# Altium integrated library Analog Devices Data Converters Analog-to-Digital Converters.IntLib: 2400 symbols (part 308 of 338)
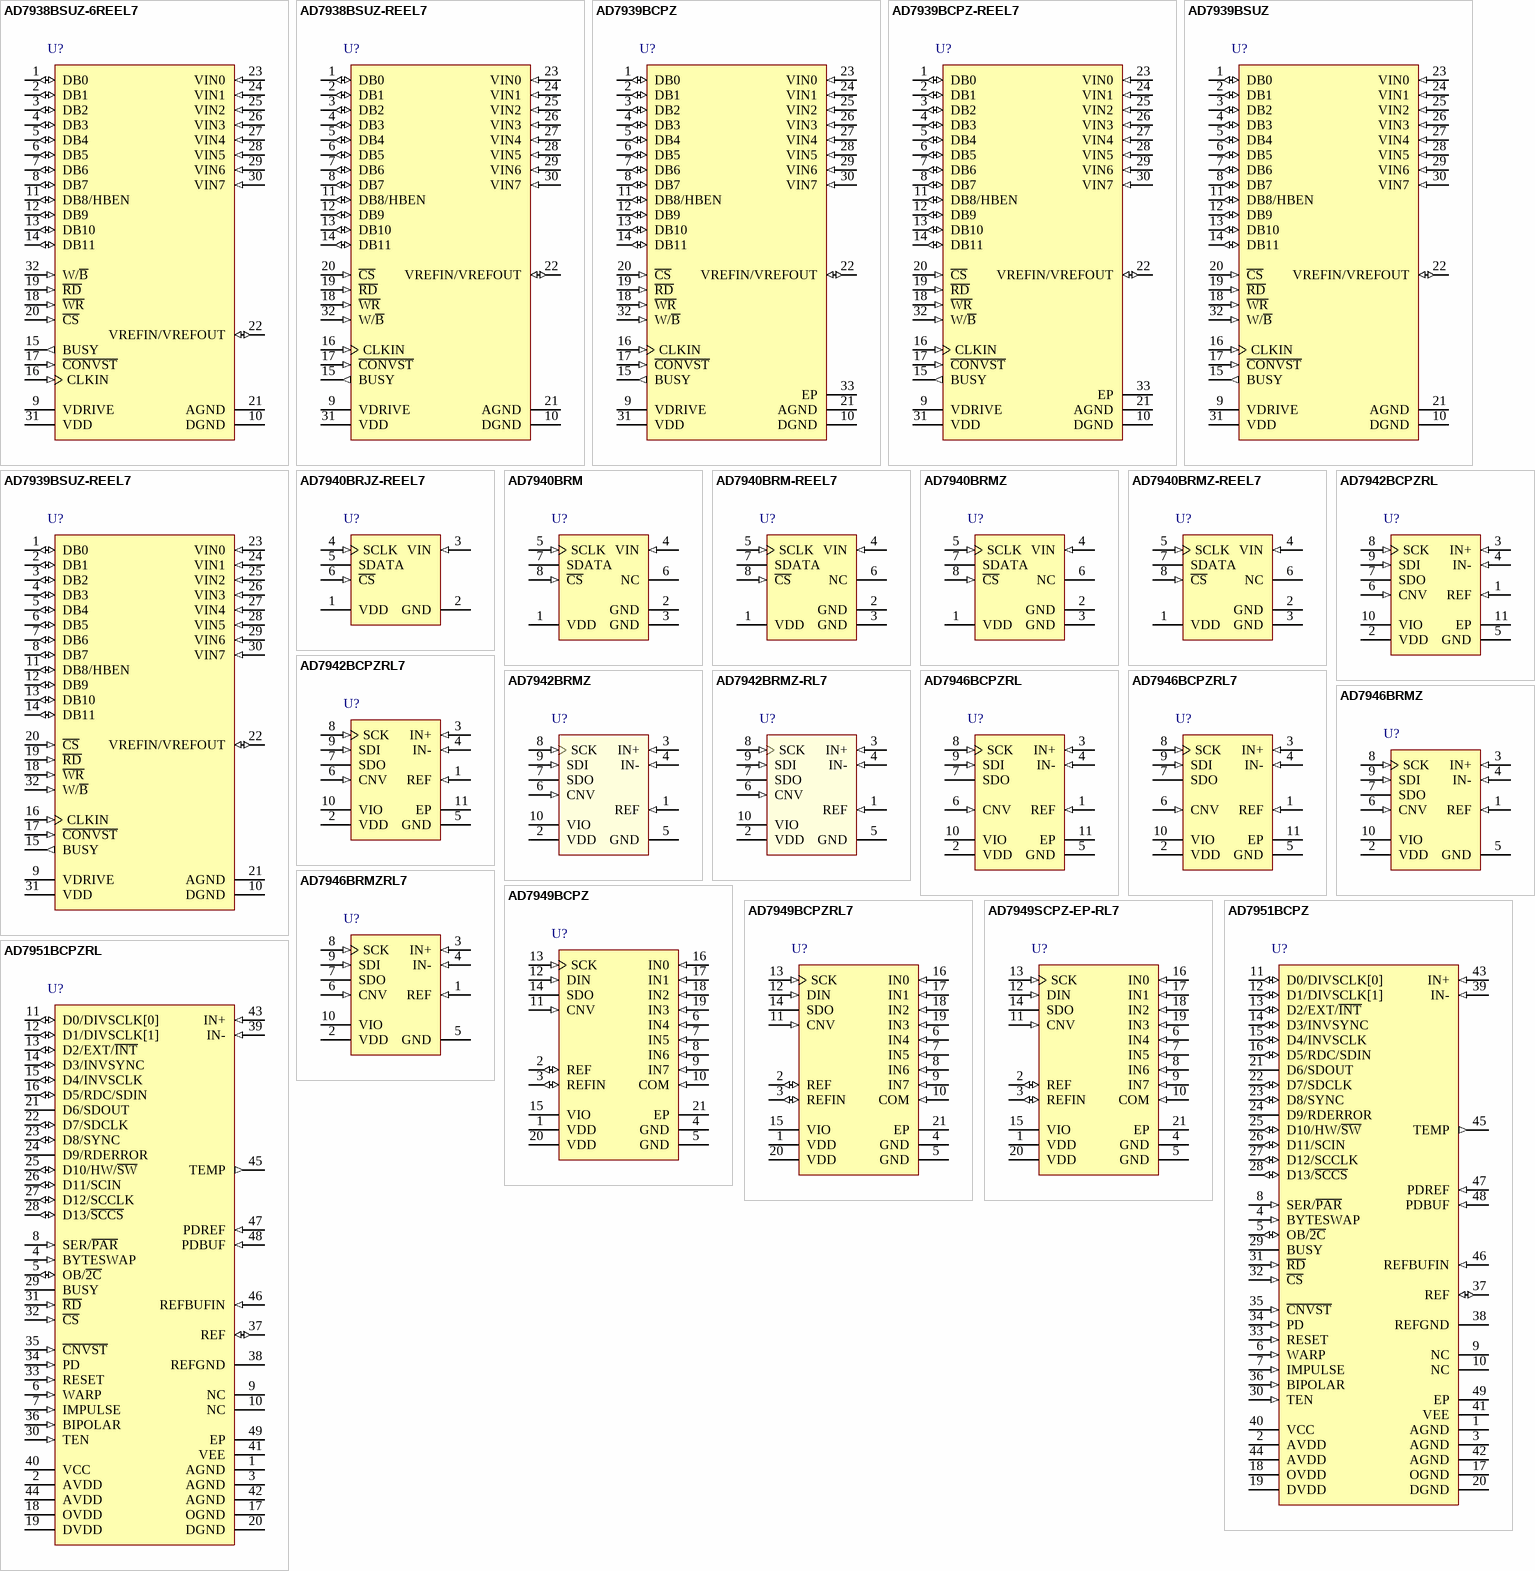
[diagram p423: symbols AD7938BSUZ-6REEL7 to AD7951BCPZRL]

## AD7942BRMZ-RL7
designator U?
Single 14-Bit PulSAR Analog-to-Digital Converter with Serial, SPI Interface, 250KSPS, -40 to +85 degC, RM-10, Pb-Free, Reel; Part Number: AD7942; Manufacturer: Analog Devices; Resolution (Bits): 14; Channels: 1; Throughput Rate (SPS): 250K; Interface: Ser, SPI; DatasheetVersion: Rev.B; PackageVersion: May-2005; PackageReference: RM-10; PackageDescription: 10-Lead Mini Small Outline Package [MSOP]; RoHS: Y; Packing: Reel; Mounting Technology: Surface Mount; ComponentLink1Description: Manufacturer URL; ComponentLink1URL: http://www.analog.com/en/index.html; ComponentLink2Description: Datasheet; ComponentLink2URL: http://www.analog.com/static/imported-files/data_sheets/AD7942.pdf; ComponentLink3Description: Package Specification; ComponentLink3URL: http://www.analog.com/static/imported-files/packages/PKG_PDF/MSOP%28RM%29/RM_10.pdf; ComponentLink4Description: Product URL; ComponentLink4URL: http://www.analog.com/en/analog-to-digital-converters/ad-converters/ad7942/products/product.html
footprint RM-10_N (TSSOP, 10-Leads, Body 3x3mm, Pitch 0.5mm, IPC Medium Density)
footprint RM-10_L (TSSOP, 10-Leads, Body 3x3mm, Pitch 0.5mm, IPC High Density)
footprint RM-10_M (TSSOP, 10-Leads, Body 3x3mm, Pitch 0.5mm, IPC Low Density)
pins: 1 REF (in) "Reference Input Voltage. The VREF range is from 0.5 V to VDD. REF is referred to the GND pin. Decouple REF as closely as possible to a 10 uF capacitor.", 2 VDD (power) "Power Supply.", 3 IN+ (in) "Analog Input. IN+ is referred to IN-. The voltage range, that is, the difference between IN+ and IN-, is 0 V  to VREF.", 4 IN- (in) "Analog Input Ground Sense. Connect IN- to the analog ground plane or to a remote sense ground.", 5 GND (power) "Power Supply Ground.", 6 CNV (in) "Convert Input. This input pin has multiple functions. On its leading edge, CNV initiates the conversions and selects the interface mode of the part: chain mode or C\S\ mode. In C\S\ mode, CNV enables the SDO pin when low. In (See Datasheet)", 7 SDO (hiz) "Serial Data Output. The conversion result is output on this pin. It is synchronized to SCK.", 8 SCK (in) "Serial Data Clock Input. When the part is selected, the conversion result is shifted out by this clock.", 9 SDI (in) "Serial Data Input. This input provides multiple features. It selects the interface mode of the ADC as follows: Chain mode is selected if SDI is low during the CNV rising edge. In this mode, SDI is used as a data input to (See Datasheet)", 10 VIO (power) "Input/Output Interface Digital Power. Nominally at the same supply as the host interface (1.8 V, 2.5 V, 3 V, or 5 V)."

## AD7946BCPZRL
designator U?
Single 14-Bit PulSAR Analog-to-Digital Converter with Serial, SPI Interface, 500KSPS, -40 to +85 degC, CP-10-9, Pb-Free, Reel; Part Number: AD7946; Manufacturer: Analog Devices; Resolution (Bits): 14; Channels: 1; Throughput Rate (SPS): 500K; Interface: Ser, SPI; DatasheetVersion: Rev.A; PackageVersion: 02-27-2012-B; PackageReference: CP-10-9; PackageDescription: 10-Lead Lead Frame Chip Scale Package [LFCSP_WD] 3 x 3 mm Body, Very Very Thin, Dual Lead; RoHS: Y; Packing: Reel; Mounting Technology: Surface Mount; ComponentLink1Description: Manufacturer URL; ComponentLink1URL: http://www.analog.com/en/index.html; ComponentLink2Description: Datasheet; ComponentLink2URL: http://www.analog.com/static/imported-files/data_sheets/AD7946.pdf; ComponentLink3Description: Package Specification; ComponentLink3URL: http://www.analog.com/static/imported-files/packages/CP_10_9.pdf; ComponentLink4Description: Product URL; ComponentLink4URL: http://www.analog.com/en/analog-to-digital-converters/ad-converters/ad7946/products/product.html
footprint CP-10-9_N (SON, 10-Leads, Body 3x3mm, Pitch 0.5mm, Thermal Pad 2.35x1.6mm, IPC Medium Density)
footprint CP-10-9_L (SON, 10-Leads, Body 3x3mm, Pitch 0.5mm, Thermal Pad 2.35x1.6mm, IPC High Density)
footprint CP-10-9_M (SON, 10-Leads, Body 3x3mm, Pitch 0.5mm, Thermal Pad 2.35x1.6mm, IPC Low Density)
pins: 1 REF (in) "Reference Input Voltage. The REF range is from 0.5 V to VDD, and is referred to the GND pin. This pin should be decoupled closely to the pin with a 10 uF capacitor.", 2 VDD (power) "Power Supply.", 3 IN+ (in) "Analog Input. It is referred to IN?. The voltage range, that is, the difference between IN+ and IN-, is 0 V to REF.", 4 IN- (in) "Analog Input Ground Sense. Connect to the analog ground plane or to a remote sense ground.", 5 GND (power) "Power Supply Ground.", 6 CNV (in) "Convert Input. This input has multiple functions. On its leading edge, it initiates the conversions and selects the interface mode, chain, or CS. In CS mode, it enables the SDO pin when low. In chain mode, the data should be (See Datasheet)", 7 SDO (hiz) "Serial Data Output. The conversion result is output on this pin. It is synchronized to SCK.", 8 SCK (in) "Serial Data Clock Input. When the part is selected, the conversion result is shifted out by this clock.", 9 SDI (in) "Serial Data Input. This input provides multiple features. It selects the interface mode of the ADC as follows:Chain mode is selected if SDI is low during the CNV rising edge. In this mode, SDI is used as a data input to (See Datasheet)", 10 VIO (power) "Input/Output Interface Digital Power. Nominally at the same supply as the host interface (1.8 V, 2.5 V, 3 V, or 5 V).", 11 EP (power) "Exposed pad."

## AD7946BCPZRL7
designator U?
Single 14-Bit PulSAR Analog-to-Digital Converter with Serial, SPI Interface, 500KSPS, -40 to +85 degC, CP-10-9, Pb-Free, Reel; Part Number: AD7946; Manufacturer: Analog Devices; Resolution (Bits): 14; Channels: 1; Throughput Rate (SPS): 500K; Interface: Ser, SPI; DatasheetVersion: Rev.A; PackageVersion: 02-27-2012-B; PackageReference: CP-10-9; PackageDescription: 10-Lead Lead Frame Chip Scale Package [LFCSP_WD] 3 x 3 mm Body, Very Very Thin, Dual Lead; RoHS: Y; Packing: Reel; Mounting Technology: Surface Mount; ComponentLink1Description: Manufacturer URL; ComponentLink1URL: http://www.analog.com/en/index.html; ComponentLink2Description: Datasheet; ComponentLink2URL: http://www.analog.com/static/imported-files/data_sheets/AD7946.pdf; ComponentLink3Description: Package Specification; ComponentLink3URL: http://www.analog.com/static/imported-files/packages/CP_10_9.pdf; ComponentLink4Description: Product URL; ComponentLink4URL: http://www.analog.com/en/analog-to-digital-converters/ad-converters/ad7946/products/product.html
footprint CP-10-9_N (SON, 10-Leads, Body 3x3mm, Pitch 0.5mm, Thermal Pad 2.35x1.6mm, IPC Medium Density)
footprint CP-10-9_L (SON, 10-Leads, Body 3x3mm, Pitch 0.5mm, Thermal Pad 2.35x1.6mm, IPC High Density)
footprint CP-10-9_M (SON, 10-Leads, Body 3x3mm, Pitch 0.5mm, Thermal Pad 2.35x1.6mm, IPC Low Density)
pins: 1 REF (in) "Reference Input Voltage. The REF range is from 0.5 V to VDD, and is referred to the GND pin. This pin should be decoupled closely to the pin with a 10 uF capacitor.", 2 VDD (power) "Power Supply.", 3 IN+ (in) "Analog Input. It is referred to IN?. The voltage range, that is, the difference between IN+ and IN-, is 0 V to REF.", 4 IN- (in) "Analog Input Ground Sense. Connect to the analog ground plane or to a remote sense ground.", 5 GND (power) "Power Supply Ground.", 6 CNV (in) "Convert Input. This input has multiple functions. On its leading edge, it initiates the conversions and selects the interface mode, chain, or CS. In CS mode, it enables the SDO pin when low. In chain mode, the data should be (See Datasheet)", 7 SDO (hiz) "Serial Data Output. The conversion result is output on this pin. It is synchronized to SCK.", 8 SCK (in) "Serial Data Clock Input. When the part is selected, the conversion result is shifted out by this clock.", 9 SDI (in) "Serial Data Input. This input provides multiple features. It selects the interface mode of the ADC as follows:Chain mode is selected if SDI is low during the CNV rising edge. In this mode, SDI is used as a data input to (See Datasheet)", 10 VIO (power) "Input/Output Interface Digital Power. Nominally at the same supply as the host interface (1.8 V, 2.5 V, 3 V, or 5 V).", 11 EP (power) "Exposed pad."

## AD7946BRMZ
designator U?
Single 14-Bit PulSAR Analog-to-Digital Converter with Serial, SPI Interface, 500KSPS, -40 to +85 degC, RM-10, Pb-Free, Tube; Part Number: AD7946; Manufacturer: Analog Devices; Resolution (Bits): 14; Channels: 1; Throughput Rate (SPS): 500K; Interface: Ser, SPI; DatasheetVersion: Rev.A; PackageVersion: May-2005; PackageReference: RM-10; PackageDescription: 10-Lead Mini Small Outline Package [MSOP]; RoHS: Y; Packing: Tube; Mounting Technology: Surface Mount; ComponentLink1Description: Manufacturer URL; ComponentLink1URL: http://www.analog.com/en/index.html; ComponentLink2Description: Datasheet; ComponentLink2URL: http://www.analog.com/static/imported-files/data_sheets/AD7946.pdf; ComponentLink3Description: Package Specification; ComponentLink3URL: http://www.analog.com/static/imported-files/packages/PKG_PDF/MSOP%28RM%29/RM_10.pdf; ComponentLink4Description: Product URL; ComponentLink4URL: http://www.analog.com/en/analog-to-digital-converters/ad-converters/ad7946/products/product.html
footprint RM-10_N (TSSOP, 10-Leads, Body 3x3mm, Pitch 0.5mm, IPC Medium Density)
footprint RM-10_L (TSSOP, 10-Leads, Body 3x3mm, Pitch 0.5mm, IPC High Density)
footprint RM-10_M (TSSOP, 10-Leads, Body 3x3mm, Pitch 0.5mm, IPC Low Density)
pins: 1 REF (in) "Reference Input Voltage. The REF range is from 0.5 V to VDD, and is referred to the GND pin. This pin should be decoupled closely to the pin with a 10 uF capacitor.", 2 VDD (power) "Power Supply.", 3 IN+ (in) "Analog Input. It is referred to IN-. The voltage range, that is, the difference between IN+ and IN-, is 0 V to REF.", 4 IN- (in) "Analog Input Ground Sense. Connect to the analog ground plane or to a remote sense ground.", 5 GND (power) "Power Supply Ground.", 6 CNV (in) "Convert Input. This input has multiple functions. On its leading edge, it initiates the conversions and selects the interface mode, chain, or C\S\. In C\S\ mode, it enables the SDO pin when low. In chain mode, the data (See Datasheet)", 7 SDO (hiz) "Serial Data Output. The conversion result is output on this pin. It is synchronized to SCK.", 8 SCK (in) "Serial Data Clock Input. When the part is selected, the conversion result is shifted out by this clock.", 9 SDI (in) "Serial Data Input. This input provides multiple features. It selects the interface mode of the ADC as follows: Chain mode is selected if SDI is low during the CNV rising edge. In this mode, SDI is used as a data input to (See Datasheet)", 10 VIO (power) "Input/Output Interface Digital Power. Nominally at the same supply as the host interface (1.8 V, 2.5 V, 3 V, or 5 V)."

## AD7946BRMZRL7
designator U?
Single 14-Bit PulSAR Analog-to-Digital Converter with Serial, SPI Interface, 500KSPS, -40 to +85 degC, RM-10, Pb-Free, Reel; Part Number: AD7946; Manufacturer: Analog Devices; Resolution (Bits): 14; Channels: 1; Throughput Rate (SPS): 500K; Interface: Ser, SPI; DatasheetVersion: Rev.A; PackageVersion: May-2005; PackageReference: RM-10; PackageDescription: 10-Lead Mini Small Outline Package [MSOP]; RoHS: Y; Packing: Reel; Mounting Technology: Surface Mount; ComponentLink1Description: Manufacturer URL; ComponentLink1URL: http://www.analog.com/en/index.html; ComponentLink2Description: Datasheet; ComponentLink2URL: http://www.analog.com/static/imported-files/data_sheets/AD7946.pdf; ComponentLink3Description: Package Specification; ComponentLink3URL: http://www.analog.com/static/imported-files/packages/PKG_PDF/MSOP%28RM%29/RM_10.pdf; ComponentLink4Description: Product URL; ComponentLink4URL: http://www.analog.com/en/analog-to-digital-converters/ad-converters/ad7946/products/product.html
footprint RM-10_N (TSSOP, 10-Leads, Body 3x3mm, Pitch 0.5mm, IPC Medium Density)
footprint RM-10_L (TSSOP, 10-Leads, Body 3x3mm, Pitch 0.5mm, IPC High Density)
footprint RM-10_M (TSSOP, 10-Leads, Body 3x3mm, Pitch 0.5mm, IPC Low Density)
pins: 1 REF (in) "Reference Input Voltage. The REF range is from 0.5 V to VDD, and is referred to the GND pin. This pin should be decoupled closely to the pin with a 10 uF capacitor.", 2 VDD (power) "Power Supply.", 3 IN+ (in) "Analog Input. It is referred to IN-. The voltage range, that is, the difference between IN+ and IN-, is 0 V to REF.", 4 IN- (in) "Analog Input Ground Sense. Connect to the analog ground plane or to a remote sense ground.", 5 GND (power) "Power Supply Ground.", 6 CNV (in) "Convert Input. This input has multiple functions. On its leading edge, it initiates the conversions and selects the interface mode, chain, or C\S\. In C\S\ mode, it enables the SDO pin when low. In chain mode, the data (See Datasheet)", 7 SDO (hiz) "Serial Data Output. The conversion result is output on this pin. It is synchronized to SCK.", 8 SCK (in) "Serial Data Clock Input. When the part is selected, the conversion result is shifted out by this clock.", 9 SDI (in) "Serial Data Input. This input provides multiple features. It selects the interface mode of the ADC as follows: Chain mode is selected if SDI is low during the CNV rising edge. In this mode, SDI is used as a data input to (See Datasheet)", 10 VIO (power) "Input/Output Interface Digital Power. Nominally at the same supply as the host interface (1.8 V, 2.5 V, 3 V, or 5 V)."